# Altium footprint library F103C8T6.PcbLib: 14 footprints
Each footprint in its own frame and in the unit in brackets; x right, y up, seen from the top. Pads: shape width x height; smd on the part's side, far side on the other; paste and mask are expansions set on the pad; w line width, h text height; cw(c..) or ccw(c..) is an arc to the next point about the centre after c.
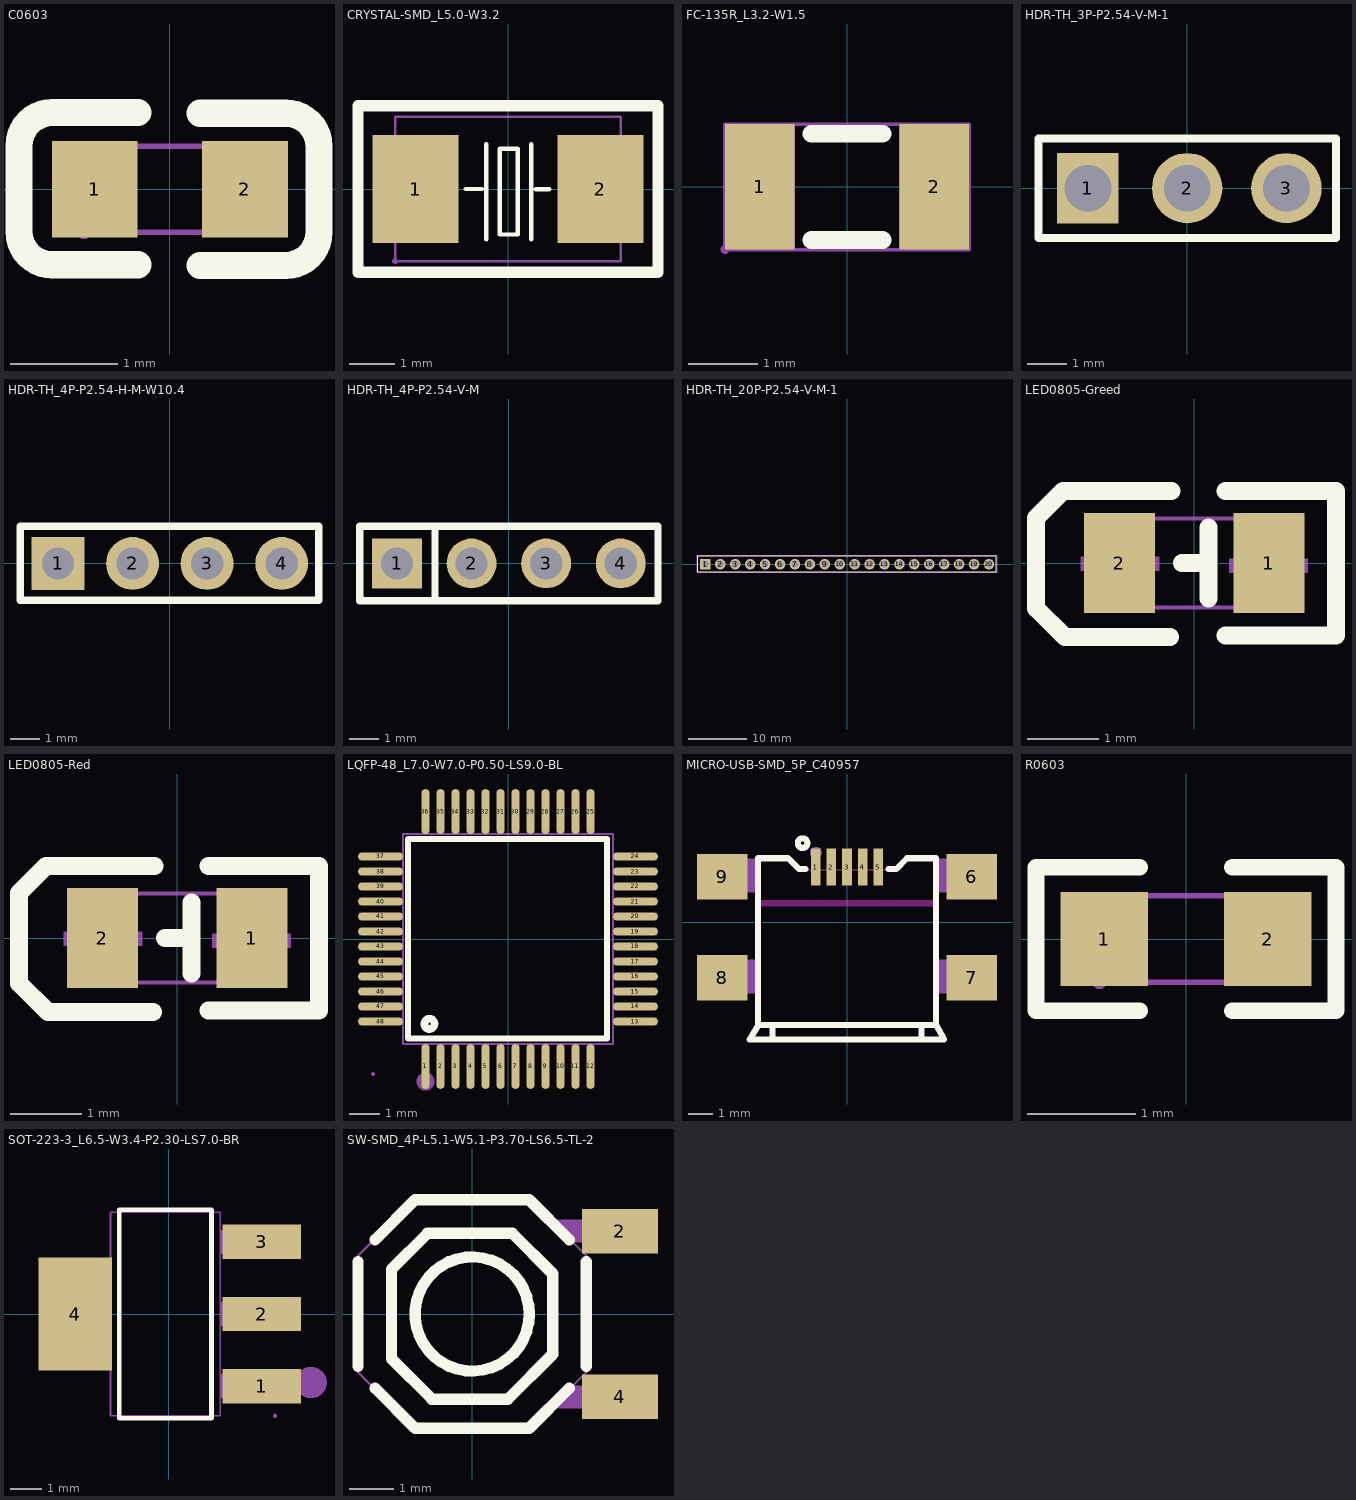
[diagram p0: the footprints below, top view; thin cyan lines are the x and y axes]

## C0603 [mm]
pads (2):
  rect 0.8x0.9 smd mask+0.051: 1(-0.7,0) 2(0.7,0)
Top Overlay:
  lines w0.254: -0.296,-0.704 -1.096,-0.704 cw(c-1.096,-0.394) -1.406,-0.394 -1.405,0.406 cw(c-1.096,0.406) -1.096,0.715 -0.296,0.715 ; 0.28,-0.71 1.08,-0.71 ccw(c1.08,-0.4) 1.39,-0.4 1.39,0.4 ccw(c1.08,0.4) 1.08,0.71 0.28,0.71
Mechanical 15:
  region: 0.8,-0.4 0.8,0.4 0.5,0.4 0.5,-0.4
  region: -0.8,-0.4 -0.8,0.4 -0.5,0.4 -0.5,-0.4
  region: -0.74,-0.4 -0.74,-0.375 -0.775,-0.34 -0.825,-0.34 -0.86,-0.375 -0.86,-0.4 -0.86,-0.425 -0.825,-0.46 -0.775,-0.46 -0.74,-0.425
  lines w0.051: -0.8,-0.4 0.8,-0.4 0.8,0.4 -0.8,0.4 -0.8,-0.4

## CRYSTAL-SMD_L5.0-W3.2 [mil]
pads (2):
  rect 74.8x94.5 smd mask+2: 1(-80.7,0) 2(80.7,0)
Top Overlay:
  lines w3.9: -37,0 -23,0 ; -19,-43.7 -19,39 ; 20.4,-43.7 20.4,39 ; 24.3,-0.4 36.1,-0.4 ; -7.2,-39.7 8.6,-39.7 8.6,35.1 -7.2,35.1 -7.2,-39.7
  lines w10: -130.9,-72.8 -130.9,-27.6 -130.9,27.6 -130.9,72.8 130.9,72.8 130.9,27.6 130.9,-27.6 130.9,-72.8 -130.9,-72.8
Mechanical 15:
  region: 51.2,39.4 94.5,39.4 94.5,-39.4 51.2,-39.4
  region: -94.5,39.4 -51.2,39.4 -51.2,-39.4 -94.5,-39.4
  region: -96,-63 -96,-62.01 -97.41,-60.6 -99.39,-60.6 -100.8,-62.01 -100.8,-63 -100.8,-63.99 -99.39,-65.4 -97.41,-65.4 -96,-63.99
  lines w2: -98.4,-63 98.4,-63 98.4,63 -98.4,63 -98.4,-63

## FC-135R_L3.2-W1.5 [mm]
pads (2):
  rect 1.001x1.801 smd mask+0.051: 1(-1.25,0) 2(1.25,0)
Top Overlay:
  lines w0.254: -0.508,-0.762 0.508,-0.762 ; -0.508,0.762 0.508,0.762
Mechanical 15:
  region: 0.749,-0.899 0.749,0.899 1.75,0.899 1.75,-0.899
  region: -1.75,-0.899 -1.75,0.899 -0.749,0.899 -0.749,-0.899
  region: -1.689,-0.899 -1.689,-0.874 -1.725,-0.838 -1.775,-0.838 -1.811,-0.874 -1.811,-0.899 -1.811,-0.924 -1.775,-0.96 -1.725,-0.96 -1.689,-0.924
  lines w0.051: -1.75,-0.899 -1.75,0.899 1.75,0.899 1.75,-0.899 -1.75,-0.899

## HDR-TH_3P-P2.54-V-M-1 [mil]
pads (3):
  rect 62x70.9 hole 47.2 mask+2: 1(-100,0)
  round 70.9 hole 47.2 mask+2: 2(0,0) 3(100,0)
Top Overlay:
  lines w8: -150,-50 150,-50 150,50 -75,50 -150,50 -150,-50
Mechanical 15:
  region: -112.6,12.6 -87.4,12.6 -87.4,-12.6 -112.6,-12.6
  region: -12.6,12.6 12.6,12.6 12.6,-12.6 -12.6,-12.6
  region: 87.4,12.6 112.6,12.6 112.6,-12.6 87.4,-12.6
  region: -147.6,-49.2 -147.6,-48.21 -149.01,-46.8 -150.99,-46.8 -152.4,-48.21 -152.4,-49.2 -152.4,-50.19 -150.99,-51.6 -149.01,-51.6 -147.6,-50.19
  lines w2: -150,-49.2 150,-49.2 150,49.2 -150,49.2 -150,-49.2

## HDR-TH_4P-P2.54-H-M-W10.4 [mm]
pads (4):
  rect 1.8x1.8 hole 1.1 mask+0.051: 1(-3.81,0)
  round 1.8 hole 1.1 mask+0.051: 2(-1.27,0) 3(1.27,0) 4(3.81,0)
Top Overlay:
  lines w0.254: -5.09,1.222 -5.09,-1.26 5.07,-1.26 5.07,1.27 -5.09,1.27
Mechanical 15:
  region: 3.49,0.32 4.13,0.32 4.13,-0.32 3.49,-0.32
  region: 0.95,0.32 1.59,0.32 1.59,-0.32 0.95,-0.32
  region: -1.59,0.32 -0.95,0.32 -0.95,-0.32 -1.59,-0.32
  region: -4.13,0.32 -3.49,0.32 -3.49,-0.32 -4.13,-0.32
  region: -5.02,-1.259 -5.02,-1.234 -5.055,-1.199 -5.105,-1.199 -5.14,-1.234 -5.14,-1.259 -5.14,-1.284 -5.105,-1.319 -5.055,-1.319 -5.02,-1.284
  lines w0.051: -5.08,1.281 -5.08,-1.259 5.08,-1.259 5.08,1.281

## HDR-TH_4P-P2.54-V-M [mm]
pads (4):
  rect 1.7x1.7 hole 1.1 mask+0.051: 1(-3.81,0)
  round 1.7 hole 1.1 mask+0.051: 2(-1.27,0) 3(1.27,0) 4(3.81,0)
Top Overlay:
  lines w0.254: -2.516,-1.27 -2.516,1.27 ; -2.516,1.27 -5.08,1.27 -5.08,-1.27 5.08,-1.27 5.08,1.27 -2.516,1.27
Mechanical 15:
  region: 3.49,0.32 4.13,0.32 4.13,-0.32 3.49,-0.32
  region: 0.95,0.32 1.59,0.32 1.59,-0.32 0.95,-0.32
  region: -1.59,0.32 -0.95,0.32 -0.95,-0.32 -1.59,-0.32
  region: -4.13,0.32 -3.49,0.32 -3.49,-0.32 -4.13,-0.32
  region: -5.02,-1.25 -5.02,-1.225 -5.055,-1.19 -5.105,-1.19 -5.14,-1.225 -5.14,-1.25 -5.14,-1.275 -5.105,-1.31 -5.055,-1.31 -5.02,-1.275
  lines w0.051: -5.08,-1.25 5.08,-1.25 5.08,1.25 -5.08,1.25 -5.08,-1.25

## HDR-TH_20P-P2.54-V-M-1 [mm]
pads (20):
  rect 1.801x1.801 hole 1.199 mask+0.051: 1(-24.13,0)
  round 1.801 hole 1.199 mask+0.051: 2(-21.59,0) 3(-19.05,0) 4(-16.51,0) 5(-13.97,0) 6(-11.43,0) 7(-8.89,0) 8(-6.35,0) 9(-3.81,0) 10(-1.27,0) 11(1.27,0) 12(3.81,0) 13(6.35,0) 14(8.89,0) 15(11.43,0) 16(13.97,0) 17(16.51,0) 18(19.05,0) 19(21.59,0) 20(24.13,0)
Top Overlay:
  lines w0.203: -25.4,-1.27 -25.4,1.397 25.4,1.397 25.4,1.27 25.4,-1.27 -25.4,-1.27
Mechanical 15:
  drawing of 25 lines, arcs and shapes, not listed

## LED0805-Greed [mm]
pads (2):
  rect 1x1.4 smd mask+0.051: 1(1.05,0) 2(-1.05,0)
Top Overlay:
  lines w0.254: -0.344,-1.043 -1.817,-1.043 -2.224,-0.636 -2.224,0.634 -1.843,1.015 -0.319,1.015 ; -0.169,0 0.1,0 ; 0.2,-0.5 0.2,0.5 ; 0.443,-1.017 1.993,-1.017 1.993,1.015 0.443,1.015
Mechanical 6:
  region: 0.941,-0.556 0.941,0.544 1.141,0.544 1.141,-0.556
  region: 0.494,0.06 1.594,0.06 1.594,-0.14 0.494,-0.14
  region: -0.494,-0.109 -1.594,-0.109 -1.594,0.091 -0.494,0.091
Mechanical 15:
  region: 1.06,0.625 1.06,0.65 1.025,0.685 0.975,0.685 0.94,0.65 0.94,0.625 0.94,0.6 0.975,0.565 1.025,0.565 1.06,0.6
  region: 1,-0.625 0.6,-0.625 0.6,0.625 1,0.625
  region: -0.6,-0.625 -1,-0.625 -1,0.625 -0.6,0.625
  lines w0.051: -1,-0.625 -1,0.625 1,0.625 1,-0.625 -1,-0.625

## LED0805-Red [mm]
pads (2):
  rect 1x1.4 smd mask+0.051: 1(1.05,0) 2(-1.05,0)
Top Overlay:
  lines w0.254: -0.344,-1.043 -1.817,-1.043 -2.224,-0.636 -2.224,0.634 -1.843,1.015 -0.319,1.015 ; -0.169,0 0.1,0 ; 0.2,-0.5 0.2,0.5 ; 0.443,-1.017 1.993,-1.017 1.993,1.015 0.443,1.015
Mechanical 6:
  region: 0.941,-0.556 0.941,0.544 1.141,0.544 1.141,-0.556
  region: 0.494,0.06 1.594,0.06 1.594,-0.14 0.494,-0.14
  region: -0.494,-0.109 -1.594,-0.109 -1.594,0.091 -0.494,0.091
Mechanical 15:
  region: 1.06,0.625 1.06,0.65 1.025,0.685 0.975,0.685 0.94,0.65 0.94,0.625 0.94,0.6 0.975,0.565 1.025,0.565 1.06,0.6
  region: 1,-0.625 0.6,-0.625 0.6,0.625 1,0.625
  region: -0.6,-0.625 -1,-0.625 -1,0.625 -0.6,0.625
  lines w0.051: -1,-0.625 -1,0.625 1,0.625 1,-0.625 -1,-0.625

## LQFP-48_L7.0-W7.0-P0.50-LS9.0-BL [mm]
pads (48):
  oval 0.27x1.5 smd mask+0.05: 1(-2.75,-4.25) 2(-2.25,-4.25) 3(-1.75,-4.25) 4(-1.25,-4.25) 5(-0.75,-4.25) 6(-0.25,-4.25) 7(0.25,-4.25) 8(0.75,-4.25) 9(1.25,-4.25) 10(1.75,-4.25) 11(2.25,-4.25) 12(2.75,-4.25) 25(2.75,4.25) 26(2.25,4.25) 27(1.75,4.25) 28(1.25,4.25) 29(0.75,4.25) 30(0.25,4.25) 31(-0.25,4.25) 32(-0.75,4.25) 33(-1.25,4.25) 34(-1.75,4.25) 35(-2.25,4.25) 36(-2.75,4.25)
  oval 1.5x0.27 smd mask+0.05: 13(4.25,-2.75) 14(4.25,-2.25) 15(4.25,-1.75) 16(4.25,-1.25) 17(4.25,-0.75) 18(4.25,-0.25) 19(4.25,0.25) 20(4.25,0.75) 21(4.25,1.25) 22(4.25,1.75) 23(4.25,2.25) 24(4.25,2.75) 37(-4.25,2.75) 38(-4.25,2.25) 39(-4.25,1.75) 40(-4.25,1.25) 41(-4.25,0.75) 42(-4.25,0.25) 43(-4.25,-0.25) 44(-4.25,-0.75) 45(-4.25,-1.25) 46(-4.25,-1.75) 47(-4.25,-2.25) 48(-4.25,-2.75)
Top Overlay:
  circle w0.254: c-2.62,-2.83 r0.17
  lines w0.2: -2.896,3.34 3.302,3.34 3.302,-3.315 -3.327,-3.315 -3.327,3.34 -2.565,3.34
Mechanical 6:
  circle w0.3: c-2.75,-4.75 r0.15
Mechanical 15:
  drawing of 101 lines, arcs and shapes, not listed

## MICRO-USB-SMD_5P_C40957 [mil]
pads (9):
  rect 15.7x60 smd mask+2: 1(-51.2,90.8) 2(-25.6,90.8) 3(0,90.8) 4(25.6,90.8) 5(51.2,90.8)
  rect 82.7x74.8 smd mask+2: 6(204.7,74.6) 7(204.7,-90.8) 8(-204.7,-90.8) 9(-204.7,74.6)
Top Overlay:
  circle w10: c-72.8,129.9 r7.9
  lines w10: -145.7,-166.6 -145.7,105.1 -98.4,105.1 -96.5,105.1 -78.7,87.3 -68.2,87.3 ; -122,-192.2 -122,-168.6 ; 68.1,87.4 80.7,87.4 98.4,105.1 145.7,105.1 145.7,-166.6 159.4,-192.2 -159.5,-192.2 -145.7,-168.6 145.7,-168.6 ; 122.2,-192.2 122.2,-168.6
Keep-Out Layer:
  lines w10: -145.7,31.3 145.7,31.3 -145.7,31.3
Mechanical 6:
  circle w9.8: c-51.2,114.2 r4.9
Mechanical 15:
  region: -222,104.1 -222,105.09 -223.41,106.5 -225.39,106.5 -226.8,105.09 -226.8,104.1 -226.8,103.11 -225.39,101.7 -223.41,101.7 -222,103.11
  region: 46.3,104.1 56.1,104.1 56.1,64.7 46.3,64.7
  region: 20.7,104.1 30.5,104.1 30.5,64.7 20.7,64.7
  region: -4.9,104.1 4.9,104.1 4.9,64.7 -4.9,64.7
  region: -30.5,104.1 -20.7,104.1 -20.7,64.7 -30.5,64.7
  region: -56.1,104.1 -46.3,104.1 -46.3,64.7 -56.1,64.7
  region: -224.4,104.1 -173.2,104.1 -173.2,49 -224.4,49
  region: 173.2,104.1 224.4,104.1 224.4,49 173.2,49
  region: 173.2,-61.3 224.4,-61.3 224.4,-116.4 173.2,-116.4
  region: -224.4,-61.3 -173.2,-61.3 -173.2,-116.4 -224.4,-116.4
  region: -173.4,104.1 -173.4,49 -145.1,49 -145.1,104.1
  region: -173.4,-61.2 -173.4,-116.4 -145.1,-116.4 -145.1,-61.2
  region: 173.4,104.1 173.4,49 145.4,49 145.4,104.1
  region: 173.4,-61.2 173.4,-116.4 145.4,-116.4 145.4,-61.3
  lines w2: -159.4,-192.4 -145.7,-167.5 -145.7,104.1 -96.5,104.1 -78.7,86.4 78.7,86.4 96.5,104.1 145.7,104.1 145.7,-167.5 159.4,-192.4 -159.4,-192.4

## R0603 [mm]
pads (2):
  rect 0.806x0.864 smd mask+0.051: 1(-0.753,0) 2(0.753,0)
Top Overlay:
  lines w0.152: -0.426,-0.661 -1.385,-0.661 -1.385,0.661 -0.426,0.661 ; 0.426,-0.661 1.385,-0.661 1.385,0.661 0.426,0.661
Top Paste:
  region: 1.195,0.45 0.395,0.45 0.345,0.4 0.345,0.172 0.715,0.172 0.715,-0.158 0.345,-0.158 0.345,-0.4 0.395,-0.45 1.195,-0.45 1.245,-0.4 1.245,0.4
  region: -0.355,0.4 -0.355,0.172 -0.735,0.172 -0.735,-0.158 -0.355,-0.158 -0.355,-0.4 -0.405,-0.45 -1.195,-0.45 -1.245,-0.4 -1.245,0.4 -1.195,0.45 -0.405,0.45
Mechanical 15:
  region: -0.74,-0.4 -0.74,-0.375 -0.775,-0.34 -0.825,-0.34 -0.86,-0.375 -0.86,-0.4 -0.86,-0.425 -0.825,-0.46 -0.775,-0.46 -0.74,-0.425
  region: -0.8,-0.4 -0.8,0.4 -0.5,0.4 -0.5,-0.4
  region: 0.8,-0.4 0.8,0.4 0.5,0.4 0.5,-0.4
  lines w0.051: -0.8,-0.4 -0.8,0.4 0.8,0.4 0.8,-0.4 -0.8,-0.4

## SOT-223-3_L6.5-W3.4-P2.30-LS7.0-BR [mm]
pads (4):
  rect 2.5x1.1 smd mask+0.051: 1(2.97,-2.3) 2(2.97,0) 3(2.97,2.3)
  rect 2.34x3.6 smd mask+0.051: 4(-2.97,0)
Top Overlay:
  lines w0.152: -1.571,-3.326 1.371,-3.326 1.371,3.326 -1.571,3.326 -1.571,-3.326
Mechanical 6:
  circle w0.5: c4.552,-2.188 r0.25
Mechanical 15:
  region: -3.6,-1.5 -3.6,1.5 -2.85,1.5 -2.85,-1.5
  region: -2.86,-1.5 -2.86,1.5 -1.84,1.5 -1.84,-1.5
  region: 2.65,-2.675 2.65,-1.925 3.4,-1.925 3.4,-2.675
  region: 1.64,-2.675 1.64,-1.925 2.66,-1.925 2.66,-2.675
  region: 2.65,-0.375 2.65,0.375 3.4,0.375 3.4,-0.375
  region: 1.64,-0.375 1.64,0.375 2.66,0.375 2.66,-0.375
  region: 2.65,1.925 2.65,2.675 3.4,2.675 3.4,1.925
  region: 1.64,1.925 1.64,2.675 2.66,2.675 2.66,1.925
  region: 3.46,-3.25 3.46,-3.225 3.425,-3.19 3.375,-3.19 3.34,-3.225 3.34,-3.25 3.34,-3.275 3.375,-3.31 3.425,-3.31 3.46,-3.275
  lines w0.051: -1.85,-3.25 1.65,-3.25 1.65,3.25 -1.85,3.25 -1.85,-3.25

## SW-SMD_4P-L5.1-W5.1-P3.70-LS6.5-TL-2 [mm]
pads (2):
  rect 1.7x1 smd mask+0.051: 2(3.3,1.85) 4(3.3,-1.85)
Top Overlay:
  circle w0.254: c0,0 r1.275
  lines w0.254: -2.55,-1.168 -2.55,1.168 ; -2.17,-1.655 -1.275,-2.55 1.275,-2.55 2.17,-1.655 ; -2.17,1.655 -1.275,2.55 1.275,2.55 2.17,1.655 ; 2.55,-1.168 2.55,1.168 ; -1.801,-0.998 -0.899,-1.9 0.8,-1.9 1.801,-0.899 1.801,0.899 0.899,1.801 -1.001,1.801 -1.801,1.001 -1.801,-0.998
Mechanical 15:
  region: 2.85,-2.1 2.85,-1.6 3.25,-1.6 3.25,-2.1
  region: 2.2,1.6 1.7,2.1 2.86,2.1 2.86,1.6
  region: 2.85,1.6 2.85,2.1 3.25,2.1 3.25,1.6
  region: 2.201,-1.601 1.701,-2.101 2.861,-2.101 2.861,-1.601
  lines w0.051: -2.55,-1.3 -1.3,-2.55 1.3,-2.55 2.55,-1.3 2.55,1.3 1.3,2.55 -1.3,2.55 -2.55,1.3 -2.55,-1.3